# Altium footprint library VBlib_Common_DIP_Packages.PcbLib: 13 footprints
Each footprint in its own frame and in the unit in brackets; x right, y up, seen from the top. Pads: shape width x height; smd on the part's side, far side on the other; paste and mask are expansions set on the pad; w line width, h text height; cw(c..) or ccw(c..) is an arc to the next point about the centre after c.
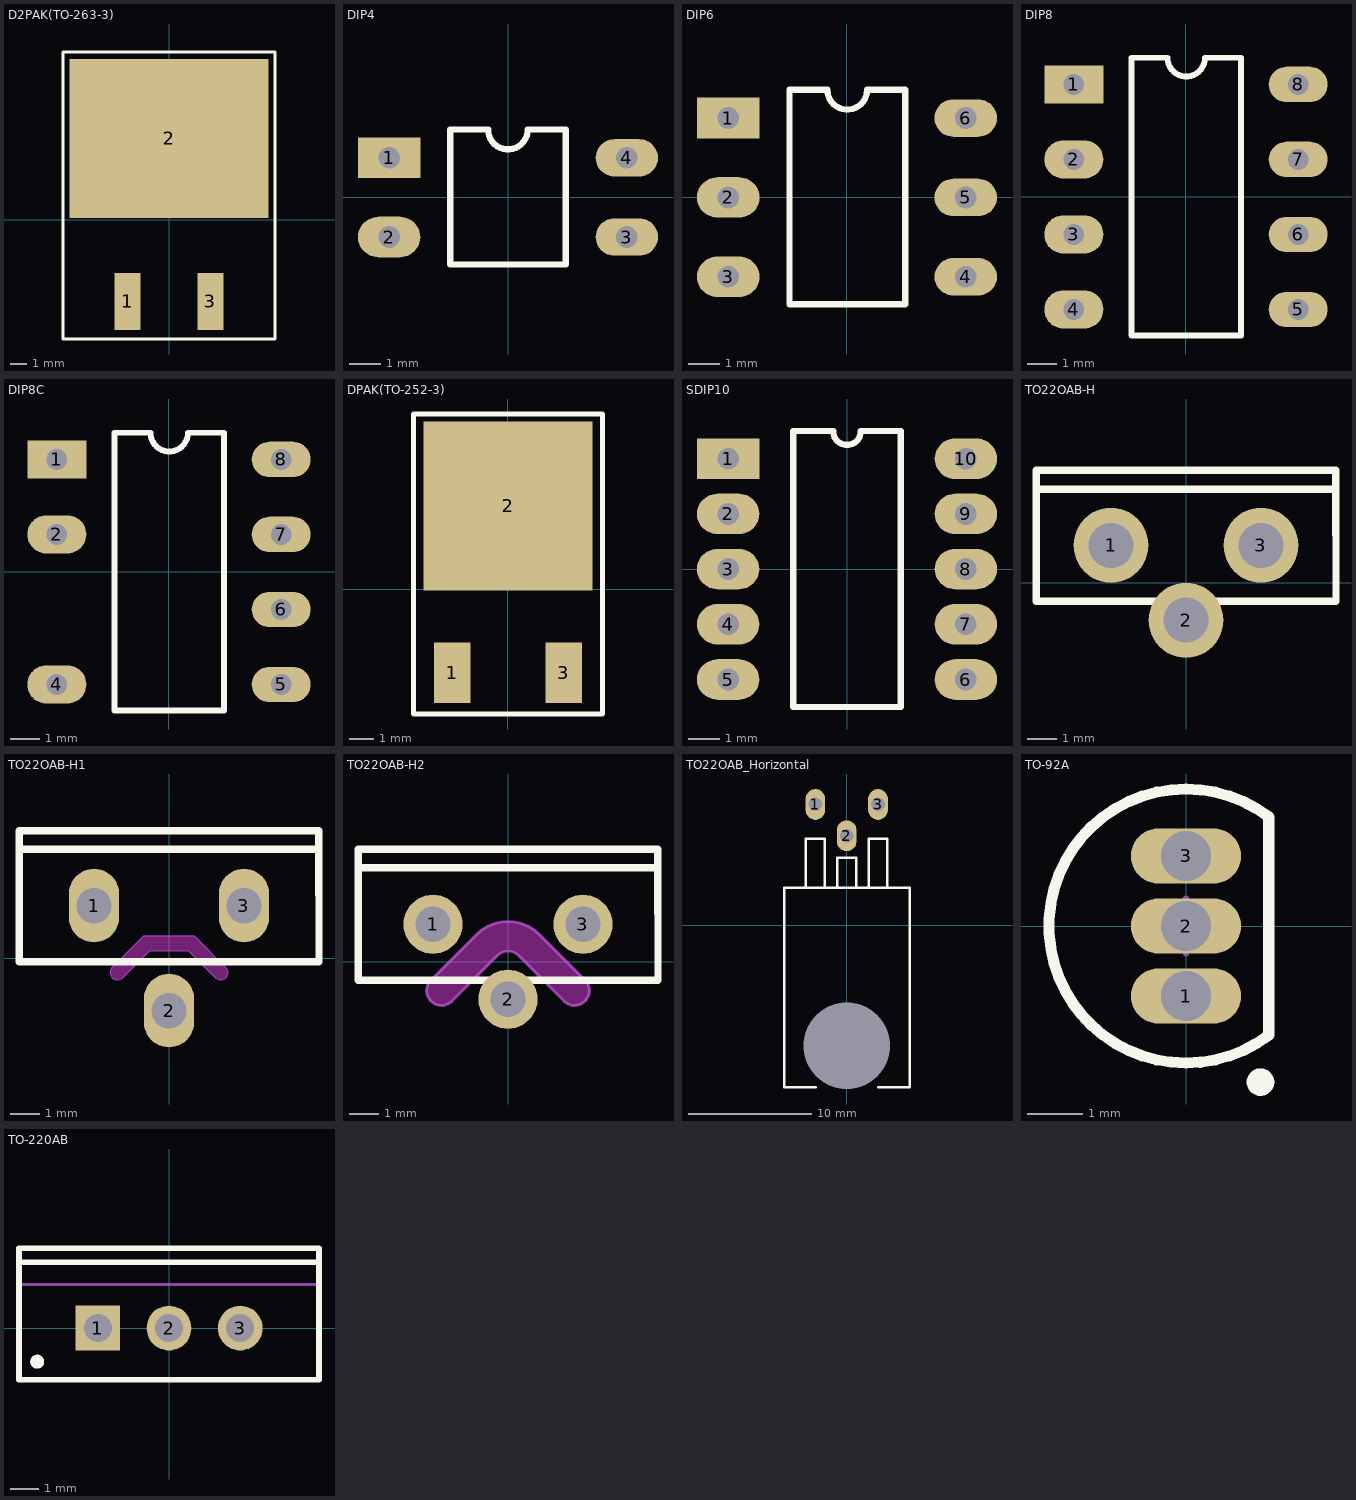
[diagram p0: the footprints below, top view; thin cyan lines are the x and y axes]

## D2PAK(TO-263-3) [mm]
height 5
pads (3):
  rect 1.6x3.5 smd: 1(-2.54,-5) 3(2.54,-5)
  rect 12.2x9.75 smd: 2(0,5)
Top Overlay:
  lines w0.2: -6.5,-7.3 -6.5,10.3 6.5,10.3 6.5,-7.3 -6.5,-7.3
3D body "D2PAK(TO-263-3).STEP": height 4.98, standoff -0.03, extent -5.08,-6.216 5.08,9.048

## DIP4 [mm]
height 4.38
pads (4):
  rect 2x1.3 hole 0.7: 1(-3.81,1.27)
  oval 2x1.3 hole 0.7: 2(-3.81,-1.27)
  oval 2x1.2 hole 0.7: 3(3.81,-1.27) 4(3.81,1.27)
Top Overlay:
  lines w0.2: -1.852,-2.15 -1.852,2.175 -0.637,2.175 ccw(c-0.002,2.175) 0.633,2.175 1.85,2.175 1.85,-2.15 -1.85,-2.15
3D body "DIP4.STEP": height 3.75, standoff -2.55, extent -3.859,-2.271 4.011,2.322

## DIP6 [mm]
height 4.38
pads (6):
  rect 2x1.3 hole 0.7: 1(-3.8,2.54)
  oval 2x1.3 hole 0.7: 2(-3.8,0) 3(-3.8,-2.54)
  oval 2x1.2 hole 0.7: 4(3.8,-2.54) 5(3.8,0) 6(3.8,2.54)
Top Overlay:
  lines w0.2: -1.842,-3.42 -1.842,3.445 -0.627,3.445 ccw(c0.008,3.445) 0.643,3.445 1.86,3.445 1.86,-3.42 -1.84,-3.42
3D body "DIP-6.STEP": height 4.5, standoff -2.8, extent -3.925,-3.595 3.945,3.525

## DIP8 [mm]
height 4.38
pads (8):
  rect 2x1.3 hole 0.7: 1(-3.8,3.81)
  oval 2x1.3 hole 0.7: 2(-3.8,1.27) 3(-3.8,-1.27) 4(-3.8,-3.81)
  oval 2x1.2 hole 0.7: 5(3.8,-3.81) 6(3.8,-1.27) 7(3.8,1.27) 8(3.8,3.81)
Top Overlay:
  lines w0.2: -1.842,-4.69 -1.842,4.715 -0.627,4.715 ccw(c0.008,4.715) 0.643,4.715 1.86,4.715 1.86,-4.68 ; -1.84,-4.69 1.86,-4.69
3D body "DIP-6.STEP": height 4.5, standoff -2.8, extent -3.925,-4.865 3.945,2.255
3D body "DIP-6.STEP": height 4.5, standoff -2.8, extent -3.925,-2.325 3.945,4.795

## DIP8C [mm]
pads (7):
  rect 2x1.3 hole 0.7: 1(-3.8,3.81)
  oval 2x1.3 hole 0.7: 2(-3.8,1.27) 4(-3.8,-3.81)
  oval 2x1.2 hole 0.7: 5(3.8,-3.81) 6(3.8,-1.27) 7(3.8,1.27) 8(3.8,3.81)
Top Overlay:
  lines w0.2: -1.842,-4.69 -1.842,4.715 -0.627,4.715 ccw(c0.008,4.715) 0.643,4.715 1.86,4.715 1.86,-4.68 ; -1.84,-4.69 1.86,-4.69
3D body "DIP-6.STEP": height 4.5, standoff -2.8, extent -3.925,-2.325 3.945,4.795
3D body "DIP-6.STEP": height 4.5, standoff -2.8, extent -3.925,-4.865 3.945,2.255

## DPAK(TO-252-3) [mm]
height 5
pads (3):
  rect 1.5x2.5 smd: 1(-2.3,-3.45) 3(2.3,-3.45)
  rect 7x7 smd: 2(0,3.45)
Top Overlay:
  lines w0.2: -3.9,-5.15 -3.9,7.25 3.9,7.25 3.9,-5.15 -3.9,-5.15
3D body "DPAK(TO-252-3).STEP": height 2.37, standoff -0.03, extent -3.367,-3.598 3.367,6.502

## SDIP10 [mm]
height 5.33
pads (10):
  rect 2x1.3 hole 0.7: 1(-3.81,3.54)
  oval 2x1.3 hole 0.7: 2(-3.81,1.77) 3(-3.81,0) 4(-3.81,-1.77) 5(-3.81,-3.54) 6(3.81,-3.54) 7(3.81,-1.77) 8(3.81,0) 9(3.81,1.77) 10(3.81,3.54)
Top Overlay:
  lines w0.2: -1.725,-4.425 -1.725,4.425 -0.442,4.425 ccw(c0,4.425) 0.442,4.425 1.725,4.425 1.725,-4.425 -1.725,-4.425
3D body: height 5.33, standoff 0.38, extent -3.41,-4.425 3.39,4.425

## TO22OAB-H [mil]
pads (3):
  round 100 hole 60: 1(-100,50) 2(0,-50) 3(100,50)
Top Overlay:
  lines w10: -200,125 200,125 ; -200,-25 -200,150 200,150 200,-25 -200,-25
3D body "TO-220-Vert_w_bent_center_lead.STEP": height 78.84, standoff -937.01, extent -196.46,-69.88 193.31,136.61

## TO22OAB-H1 [mm]
pads (3):
  oval 1.7x2.5 hole 1.2: 1(-2.54,1.778) 2(0,-1.778) 3(2.54,1.778)
Top Overlay:
  lines w0.254: -5.08,3.683 5.08,3.683 ; -5.08,-0.127 -5.08,4.318 5.08,4.318 5.08,-0.127 -5.08,-0.127
Keep-Out Layer:
  board cut-out: -1.587,-0.681 -1.623,-0.713 -1.714,-0.744 -1.811,-0.739 -1.898,-0.698 -1.963,-0.628 -1.998,-0.538 -1.996,-0.442 -1.959,-0.353 -1.925,-0.319 -0.851,0.754 0.852,0.754 1.927,-0.321 1.964,-0.357 2.001,-0.453 1.998,-0.556 1.953,-0.649 1.875,-0.717 1.777,-0.748 1.675,-0.737 1.585,-0.686 1.554,-0.644 1.552,-0.646 0.652,0.254 -0.652,0.254
Mechanical 3:
  lines w0.02: -0.851,0.754 -1.925,-0.319 ccw(c-1.75,-0.494) -1.587,-0.681 -0.652,0.254 0.652,0.254 1.552,-0.646 ; -0.848,0.754 0.852,0.754 1.927,-0.321 cw(c1.752,-0.496) 1.554,-0.644
3D body "TO-220-Vert_w_bent_center_lead.STEP": height 2, standoff -23.8, extent -4.965,-1.067 4.935,4.178

## TO22OAB-H2 [mm]
pads (3):
  round 2 hole 1.2: 1(-2.54,1.27) 2(0,-1.27) 3(2.54,1.27)
Top Overlay:
  lines w0.254: -5.08,3.175 5.08,3.175 ; -5.08,-0.635 5.08,-0.635 5.08,3.81 -5.08,3.81 -5.08,-0.635
Keep-Out Layer:
  board cut-out: -2.608,-0.625 -2.678,-0.696 -2.754,-0.879 -2.754,-1.078 -2.678,-1.262 -2.538,-1.403 -2.354,-1.479 -2.155,-1.479 -1.971,-1.403 -1.901,-1.332 -0.352,0.216 -0.277,0.278 -0.097,0.352 0.097,0.352 0.277,0.278 0.353,0.216 1.901,-1.332 1.971,-1.403 2.155,-1.479 2.354,-1.479 2.538,-1.403 2.678,-1.262 2.755,-1.078 2.755,-0.879 2.678,-0.696 2.608,-0.625 1.06,0.923 0.955,1.027 0.71,1.191 0.437,1.304 0.148,1.362 0,1.362 -0.148,1.362 -0.437,1.304 -0.71,1.192 -0.955,1.028 -1.059,0.923
Mechanical 1:
  lines w0.1: -2.608,-0.625 ccw(c-2.255,-0.979) -1.901,-1.333 -0.352,0.216 cw(c0,-0.136) 0.352,0.216 1.901,-1.333 ccw(c2.255,-0.979) 2.608,-0.625 1.06,0.923 ccw(c0,-0.136) -1.06,0.923 -2.608,-0.625
3D body "TO-220-Vert_w_bent_center_lead.STEP": height 2, standoff -23.8, extent -4.99,-1.775 4.91,3.47

## TO22OAB_Horizontal [mm]
pads (4):
  round 0 hole 7 unplated: 0(0,-9.779)
  oval 1.6x2.5 hole 1.1: 1(-2.54,9.779) 2(0,7.239) 3(2.54,9.779)
Top Overlay:
  lines w0.2: -3.302,3.009 -3.302,6.985 -1.778,6.985 -1.778,3.009 ; -2.515,-13.132 -5.055,-13.132 -5.055,3.009 5.105,3.009 5.105,-13.132 2.565,-13.132 ; -0.762,3.009 -0.762,5.461 0.76,5.461 0.76,3.009 ; 1.778,3.009 1.778,6.985 3.302,6.985 3.302,3.009
3D body "TO-220-Horiz_w_bent_leads.STEP": height 5, standoff -2.2, extent -4.928,-13.008 4.972,10.084

## TO-92A [mm] "TO, Flat Index; 3 In-Line, Axial Leads; Body Dia. 4.5mm; Leads 0.51 x 0.48 mm (max)"
height 6.86
pads (3):
  oval 2x1 hole 0.9: 1(0,-1.27) 2(0,0) 3(0,1.27)
Top Overlay:
  circle w0.25: c1.35,-2.83 r0.125
  lines w0.2: 1.5,-1.98 cw(c0,0) 1.5,1.98 1.5,-1.98
Mechanical 13:
  lines w0.1: 1.5,-1.98 cw(c0,0) 1.5,1.98 1.5,-1.98
Mechanical 15:
  lines w0.1: -0.5,0 0.5,0 ; 0,-0.5 0,0.5
3D body: height 6.86, standoff 2.2, extent -2.485,-2.495 1.501,2.495

## TO-220AB [mm] "TO, Thru-Hole, Vertical, Heatsink Mounted; 3 In-Line Leads; Pitch 2.54 mm"
height 19.3
pads (3):
  rect 1.6x1.6 hole 1: 1(-2.54,0)
  round 1.6 hole 1: 2(0,0) 3(2.54,0)
Top Overlay:
  circle w0.25: c-4.7,-1.2 r0.125
  lines w0.2: -5.35,2.35 5.35,2.35 ; -5.35,-1.85 -5.35,2.85 5.35,2.85 5.35,-1.85 -5.35,-1.85
Mechanical 13:
  lines w0.1: -5.35,1.55 5.35,1.55 ; -5.35,-1.85 5.35,-1.85 5.35,2.85 -5.35,2.85 -5.35,-1.85
Mechanical 15:
  lines w0.1: -0.5,0 0.5,0 ; 0,-0.5 0,0.5
3D body: height 19.3, standoff 12.9, extent -5.349,1.551 5.349,2.849
3D body: height 12.9, standoff 4, extent -5.4,-1.9 5.4,2.9